# Altium footprint library SOT23.PcbLib: 2 footprints
Each footprint in its own frame and in the unit in brackets; x right, y up, seen from the top. Pads: shape width x height; smd on the part's side, far side on the other; paste and mask are expansions set on the pad; w line width, h text height; cw(c..) or ccw(c..) is an arc to the next point about the centre after c.
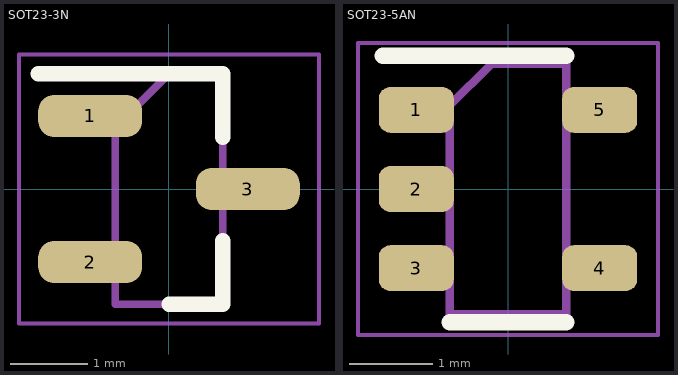
[diagram p0: the footprints below, top view; thin cyan lines are the x and y axes]

## SOT23-3N [mm] "SOT23, 3-Leads, Body 2.90x2.45mm, Pitch 0.95mm, IPC Medium Density"
height 1.1
pads (3):
  rrect75% 1.35x0.55 smd: 1(-1.025,0.95) 2(-1.025,-0.95) 3(1.025,0)
Top Overlay:
  lines w0.2: -1.7,1.5 0.7,1.5 0.7,0.675 ; 0,-1.5 0.7,-1.5 0.7,-0.675
Mechanical 13:
  lines w0.1: -0.7,-1.5 0.7,-1.5 0.7,1.5 0,1.5 -0.7,0.8 -0.7,-1.5
Mechanical 15:
  lines w0.05: -1.95,-1.75 1.95,-1.75 1.95,1.75 -1.95,1.75 -1.95,-1.75
3D body: height 1.1, standoff 0.05, extent -0.7,-1.5 0.7,1.5

## SOT23-5AN [mm] "SOT23, 5-Leads, Body 2.90x2.45mm, Pitch 0.95mm, IPC Medium Density"
height 1.1
pads (5):
  rrect50% 0.9x0.55 smd: 1(-1.1,0.95) 2(-1.1,0) 3(-1.1,-0.95) 4(1.1,-0.95) 5(1.1,0.95)
Top Overlay:
  lines w0.2: -1.5,1.6 0.7,1.6 ; -0.7,-1.6 0.7,-1.6
Mechanical 13:
  lines w0.1: -0.7,-1.5 -0.7,1 -0.2,1.5 0.7,1.5 0.7,-1.5 -0.7,-1.5
Mechanical 15:
  lines w0.05: -1.8,-1.75 1.8,-1.75 1.8,1.75 -1.8,1.75 -1.8,-1.75
3D body: height 1.1, standoff 0.05, extent -0.7,-1.5 0.7,1.5